# EAGLE library part 7508112512 (library Wurth_Power Magnetics_WE-OLEFD)
WE-OLEFD EFD-Style Offline Flyback Transformers Characteristics Universal input voltage Switching frequency: 68kHz to 170kHz Low Profile Isolation voltage: 4500VAC at 1 second Operating temp: -40°C to +125°C Designed for IEC61558-2 Reinforced 400VDC Applications LED lighting Offline switching power Power electronics Electronics ballasts White goods <https://www.we-online.com/catalog/media/o32905v209%20Family_MID-OLEFD.jpg> Details see: www.we-online.com/en/components/products/WE-OLEFD Created by Ella Wu 2023-04-11 2023 (C) Wurth Elektronik
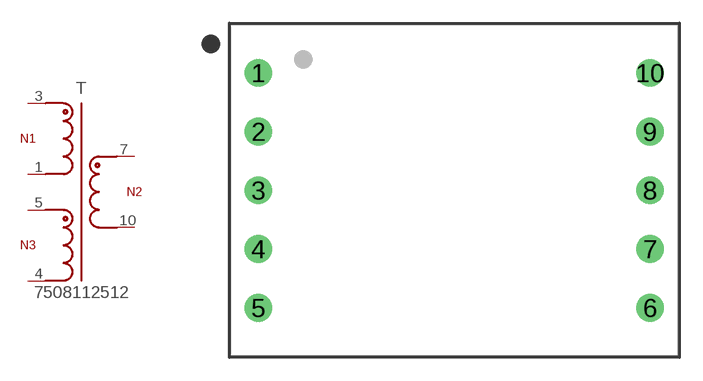
[diagram p10: symbol with the pads of WE-OLEFD_EFD20_THT; footprint WE-OLEFD_EFD20_THT]

Designator prefix T

## 7508112512 (DATASHEET-URL: https://www.we-online.com/redexpert/spec/7508112512?ae; F-SWTICH: 68 - 170kHz; HEIGHT: 12mm; IOUT1: 0.75A; ISAT1: 1.4A; L1: 800µH; LENGTH: 21.5mm; MOUNT: THT; N: 11.11:1.55:1; PART-NUMBER: 7508112512; VALUE: 7508112512; VAUX: 20V; VIN: 85 - 265 V (AC); VOUT1: 32V; VT: 4500 V (AC); WIDTH: 29mm)  [WE-OLEFD_EFD20_THT]
1  1  pas
3  3  pas
4  4  pas
5  5  pas
7  7  pas
10  10  pas

## Footprint WE-OLEFD_EFD20_THT (pad centres in mm)
WE-OLEFD EFD-Style Offline Flyback Transformers Size: EFD20,THT,10pins LXWXH=21.5X29X12mm
drill 1.2: 1 -12.7,7.62; 2 -12.7,3.81; 3 -12.7,0; 4 -12.7,-3.81; 5 -12.7,-7.62; 6 12.7,-7.62; 7 12.7,-3.81; 8 12.7,0; 9 12.7,3.81; 10 12.7,7.62